# Altium schematic symbol library Capacitor_P.SchLib: 1 symbol
Pins are listed as number, name and electrical type; pins without a type are passive.

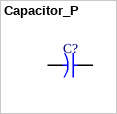
[diagram p0: symbol Capacitor_P]

## Capacitor_P
designator C?
pins: 1, 2